# Altium footprint library SparkFun-Connectors.PCBLIB: 344 footprints (part 7 of 22)
Each footprint in its own frame and in the unit in brackets; x right, y up, seen from the top. Pads: shape width x height; smd on the part's side, far side on the other; paste and mask are expansions set on the pad; w line width, h text height; cw(c..) or ccw(c..) is an arc to the next point about the centre after c.
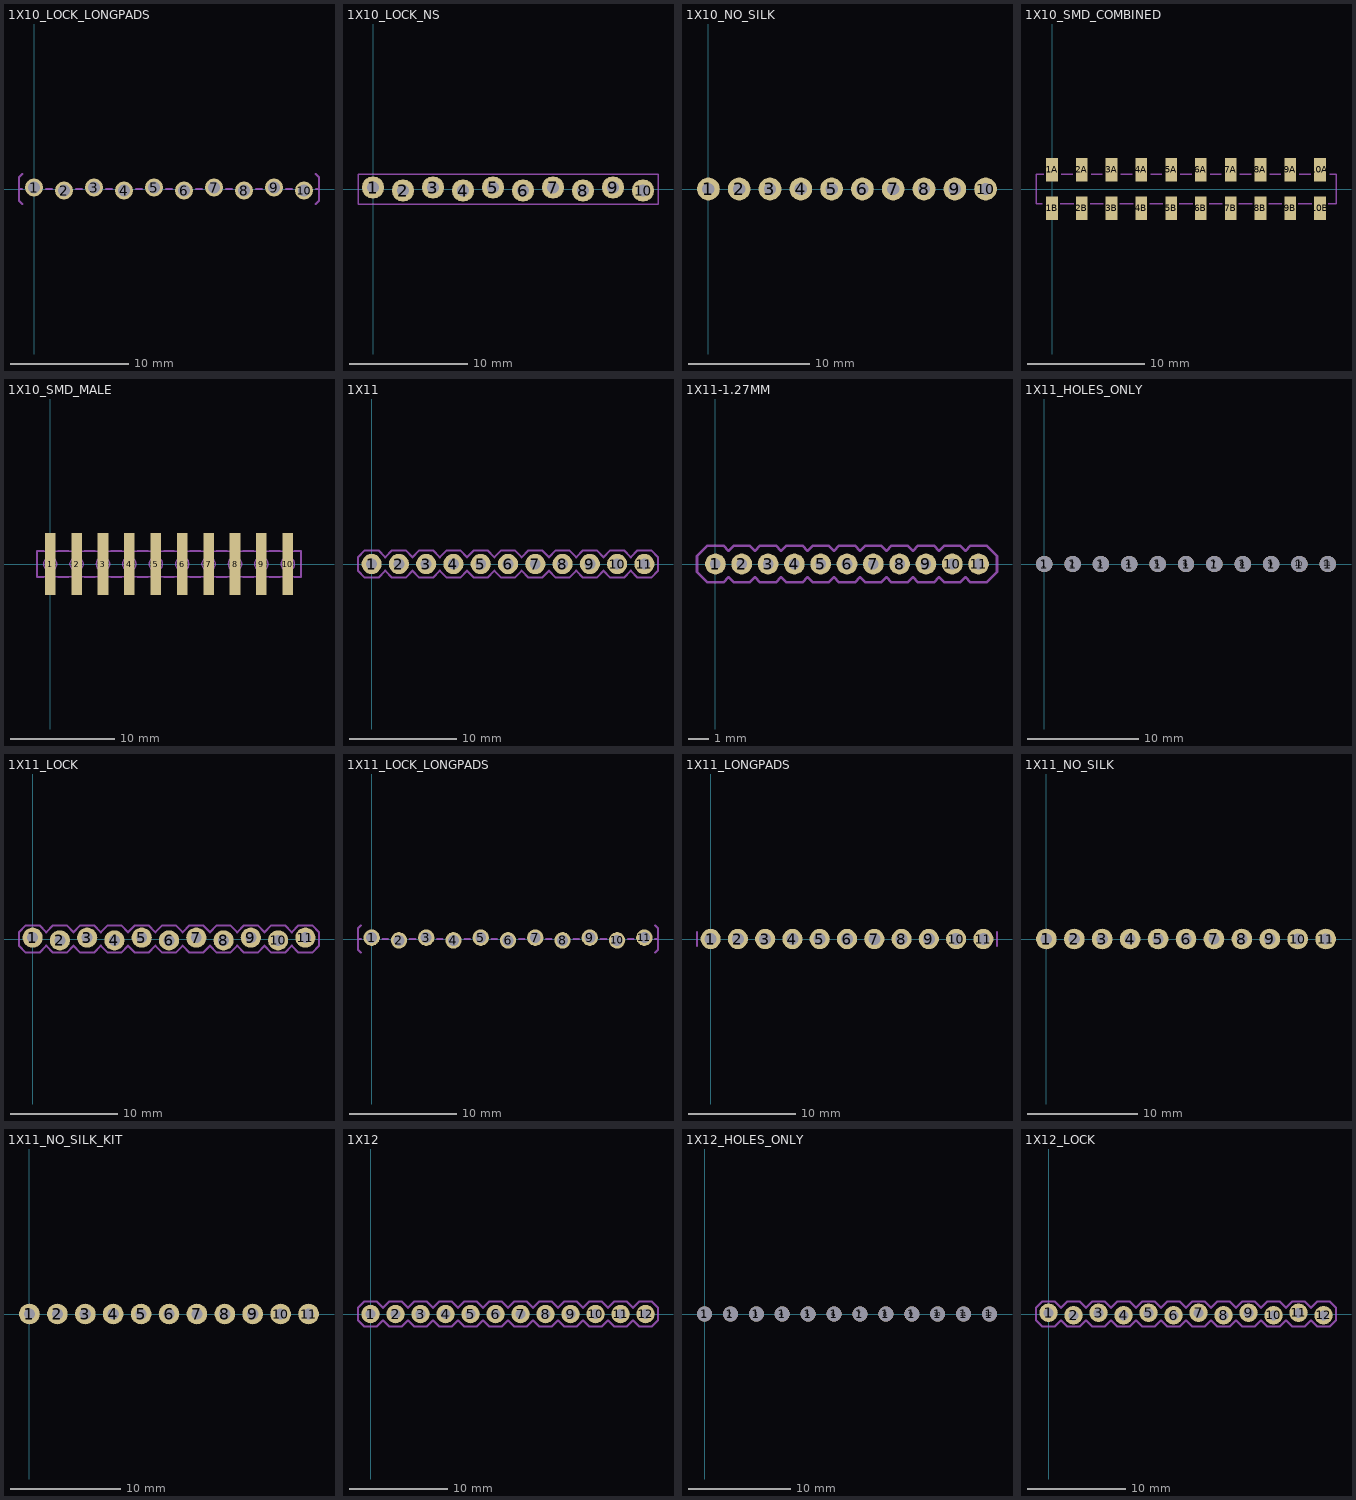
[diagram p6: the footprints below, top view; thin cyan lines are the x and y axes]

## 1X10_LOCK_LONGPADS [mil]
pads (10):
  round 60 hole 40: 1(0,5) 2(100,-5) 3(200,5) 4(300,-5) 5(400,5) 6(500,-5) 7(600,5) 8(700,-5) 9(800,5) 10(900,-5)
Mechanical 8:
  region: -11.5,-11.5 -11.5,11.5 11.5,11.5 11.5,-11.5
  region: 88.5,-11.5 88.5,11.5 111.5,11.5 111.5,-11.5
  region: 188.5,-11.5 188.5,11.5 211.5,11.5 211.5,-11.5
  region: 311.5,-11.5 288.5,-11.5 288.5,11.5 311.5,11.5
  region: 388.5,-11.5 388.5,11.5 411.5,11.5 411.5,-11.5
  region: 488.5,-11.5 488.5,11.5 511.5,11.5 511.5,-11.5
  region: 588.5,-11.5 588.5,11.5 611.5,11.5 611.5,-11.5
  region: 688.5,-11.5 688.5,11.5 711.5,11.5 711.5,-11.5
  region: 788.5,-11.5 788.5,11.5 811.5,11.5 811.5,-11.5
  region: 911.5,-11.5 888.5,-11.5 888.5,11.5 911.5,11.5
Mechanical 22:
  lines w8: -40,0 -50,0 ; -39,-50 -50,-39 -50,0 ; -39,50 -50,39 -50,0 ; 40,0 60,0 ; 140,0 160,0 ; 240,0 260,0 ; 340,0 360,0 ; 440,0 460,0 ; 540,0 560,0 ; 640,0 660,0 ; 740,0 760,0 ; 840,0 860,0 ; 939,-50 950,-39 950,0 ; 939,50 950,39 950,0 ; 940,0 950,0

## 1X10_LOCK_NS [mil]
pads (10):
  round 74 / inner round 60 / far side round 74 hole 40: 1(0,5) 2(100,-5) 3(200,5) 4(300,-5) 5(400,5) 6(500,-5) 7(600,5) 8(700,-5) 9(800,5) 10(900,-5)
Mechanical 8:
  region: 590,-10 590,10 610,10 610,-10
  region: 490,-10 490,10 510,10 510,-10
  region: 390,-10 390,10 410,10 410,-10
  region: 290,-10 290,10 310,10 310,-10
  region: 190,-10 190,10 210,10 210,-10
  region: 90,-10 90,10 110,10 110,-10
  region: -10,-10 -10,10 10,10 10,-10
  region: 690,-10 690,10 710,10 710,-10
  region: 790,-10 790,10 810,10 810,-10
  region: 890,-10 890,10 910,10 910,-10
  lines w5: -50,-50 -50,50 950,50 950,-50 -50,-50

## 1X10_NO_SILK [mil]
pads (10):
  round 74 / inner round 60 / far side round 74 hole 40: 1(0,0) 2(100,0) 3(200,0) 4(300,0) 5(400,0) 6(500,0) 7(600,0) 8(700,0) 9(800,0) 10(900,0)
Mechanical 8:
  region: 590,-10 590,10 610,10 610,-10
  region: 490,-10 490,10 510,10 510,-10
  region: 390,-10 390,10 410,10 410,-10
  region: 290,-10 290,10 310,10 310,-10
  region: 190,-10 190,10 210,10 210,-10
  region: 90,-10 90,10 110,10 110,-10
  region: -10,-10 -10,10 10,10 10,-10
  region: 690,-10 690,10 710,10 710,-10
  region: 790,-10 790,10 810,10 810,-10
  region: 890,-10 890,10 910,10 910,-10

## 1X10_SMD_COMBINED [mm]
pads (20):
  rect 1x2 smd: 1A(0,1.65) 1B(0,-1.65) 2A(2.54,1.65) 2B(2.54,-1.65) 3A(5.08,1.65) 3B(5.08,-1.65) 4A(7.62,1.65) 4B(7.62,-1.65) 5A(10.16,1.65) 5B(10.16,-1.65) 6A(12.7,1.65) 6B(12.7,-1.65) 7A(15.24,1.65) 7B(15.24,-1.65) 8A(17.78,1.65) 8B(17.78,-1.65) 9A(20.32,1.65) 9B(20.32,-1.65) 10A(22.86,1.65) 10B(22.86,-1.65)
Mechanical 22:
  lines w0.127: -0.85,-1.25 -1.37,-1.25 -1.37,1.25 -0.723,1.25 ; 0.703,-1.25 1.837,-1.25 ; 0.789,1.25 1.751,1.25 ; 3.243,-1.25 4.377,-1.25 ; 3.329,1.25 4.291,1.25 ; 5.783,-1.25 6.917,-1.25 ; 5.869,1.25 6.831,1.25 ; 8.323,-1.25 9.457,-1.25 ; 8.409,1.25 9.371,1.25 ; 10.863,-1.25 11.997,-1.25 ; 10.949,1.25 11.911,1.25 ; 13.403,-1.25 14.537,-1.25 ; 13.489,1.25 14.451,1.25 ; 15.943,-1.25 17.077,-1.25 ; 16.029,1.25 16.991,1.25 ; 18.483,-1.25 19.617,-1.25 ; 18.569,1.25 19.531,1.25 ; 21.023,-1.25 22.157,-1.25 ; 21.109,1.25 22.071,1.25 ; 23.583,-1.25 24.23,-1.25 24.23,1.25 23.71,1.25

## 1X10_SMD_MALE [mm]
pads (10):
  rect 1.02x6 smd: 1(0,0) 2(2.54,0) 3(5.08,0) 4(7.62,0) 5(10.16,0) 6(12.7,0) 7(15.24,0) 8(17.78,0) 9(20.32,0) 10(22.86,0)
Mechanical 8:
  circle w0.127: c0,0 r0.64
  circle w0.127: c2.54,0 r0.64
  circle w0.127: c5.08,0 r0.64
  circle w0.127: c7.62,0 r0.64
  circle w0.127: c10.16,0 r0.64
  circle w0.127: c12.7,0 r0.64
  circle w0.127: c15.24,0 r0.64
  circle w0.127: c17.78,0 r0.64
  circle w0.127: c20.32,0 r0.64
  circle w0.127: c22.86,0 r0.64
  region: -0.32,0 -0.32,2.75 0.32,2.75 0.32,0
  region: 4.76,0 4.76,2.75 5.4,2.75 5.4,0
  region: 9.84,0 9.84,2.75 10.48,2.75 10.48,0
  region: 2.86,0 2.86,-2.75 2.22,-2.75 2.22,0
  region: 7.94,0 7.94,-2.75 7.3,-2.75 7.3,0
  region: 13.02,0 13.02,-2.75 12.38,-2.75 12.38,0
  region: 14.92,0 14.92,2.75 15.56,2.75 15.56,0
  region: 18.1,0 18.1,-2.75 17.46,-2.75 17.46,0
  region: 23.18,0 23.18,-2.75 22.54,-2.75 22.54,0
  region: 20,0 20,2.75 20.64,2.75 20.64,0
  lines w0.127: -1.27,-1.25 -1.27,1.25 24.13,1.25 24.13,-1.25 -1.27,-1.25
Mechanical 22:
  lines w0.178: -0.635,-1.25 -1.27,-1.25 -1.27,1.25 -0.635,1.25 ; 0.762,-1.25 1.778,-1.25 ; 0.762,1.25 1.778,1.25 ; 3.302,-1.25 4.318,-1.25 ; 3.302,1.25 4.318,1.25 ; 5.842,-1.25 6.858,-1.25 ; 5.842,1.25 6.858,1.25 ; 8.382,-1.25 9.398,-1.25 ; 8.382,1.25 9.398,1.25 ; 10.922,-1.25 11.938,-1.25 ; 10.922,1.25 11.938,1.25 ; 13.462,-1.25 14.478,-1.25 ; 13.462,1.25 14.478,1.25 ; 16.002,-1.25 17.018,-1.25 ; 16.002,1.25 17.018,1.25 ; 18.542,-1.25 19.558,-1.25 ; 18.542,1.25 19.558,1.25 ; 21.082,-1.25 22.098,-1.25 ; 21.082,1.25 22.098,1.25 ; 23.495,-1.25 24.13,-1.25 24.13,1.25 23.495,1.25

## 1X11 [mil]
pads (11):
  round 74 / inner round 60 / far side round 74 hole 40: 1(0,0) 2(100,0) 3(200,0) 4(300,0) 5(400,0) 6(500,0) 7(600,0) 8(700,0) 9(800,0) 10(900,0) 11(1000,0)
Mechanical 8:
  region: 590,-10 590,10 610,10 610,-10
  region: 490,-10 490,10 510,10 510,-10
  region: 390,-10 390,10 410,10 410,-10
  region: 290,-10 290,10 310,10 310,-10
  region: 190,-10 190,10 210,10 210,-10
  region: 90,-10 90,10 110,10 110,-10
  region: -10,-10 -10,10 10,10 10,-10
  region: 690,-10 690,10 710,10 710,-10
  region: 790,-10 790,10 810,10 810,-10
  region: 890,-10 890,10 910,10 910,-10
  region: 990,-10 990,10 1010,10 1010,-10
Mechanical 22:
  lines w8: -50,-25 -50,25 -25,50 25,50 50,25 75,50 125,50 150,25 175,50 225,50 250,25 275,50 325,50 350,25 375,50 425,50 450,25 475,50 525,50 550,25 575,50 625,50 650,25 675,50 725,50 750,25 775,50 825,50 850,25 875,50 925,50 950,25 975,50 1025,50 1050,25 1050,-25 1025,-50 975,-50 950,-25 925,-50 875,-50 850,-25 825,-50 775,-50 750,-25 725,-50 675,-50 650,-25 625,-50 575,-50 550,-25 525,-50 475,-50 450,-25 425,-50 375,-50 350,-25 325,-50 275,-50 250,-25 225,-50 175,-50 150,-25 125,-50 75,-50 50,-25 25,-50 -25,-50 -50,-25

## 1X11-1.27MM [mm]
pads (11):
  round 1 / inner round 1.524 / far side round 1 hole 0.508: 1(0,0) 2(1.27,0) 3(2.54,0) 4(3.81,0) 5(5.08,0) 6(6.35,0) 7(7.62,0) 8(8.89,0) 9(10.16,0) 10(11.43,0) 11(12.7,0)
Mechanical 22:
  lines w0.127: -0.889,-0.381 -0.889,0.381 -0.381,0.889 0.381,0.889 0.635,0.635 0.889,0.889 1.651,0.889 1.905,0.635 2.159,0.889 2.921,0.889 3.175,0.635 3.429,0.889 4.191,0.889 4.445,0.635 4.699,0.889 5.461,0.889 5.715,0.635 5.969,0.889 6.731,0.889 6.985,0.635 7.239,0.889 8.001,0.889 8.255,0.635 8.509,0.889 9.271,0.889 9.525,0.635 9.779,0.889 10.541,0.889 10.795,0.635 11.049,0.889 11.811,0.889 12.065,0.635 12.319,0.889 13.081,0.889 13.589,0.381 13.589,-0.381 13.081,-0.889 12.319,-0.889 12.065,-0.635 11.811,-0.889 11.049,-0.889 10.795,-0.635 10.541,-0.889 9.779,-0.889 9.525,-0.635 9.271,-0.889 8.509,-0.889 8.255,-0.635 8.001,-0.889 7.239,-0.889 6.985,-0.635 6.731,-0.889 5.969,-0.889 5.715,-0.635 5.461,-0.889 4.699,-0.889 4.445,-0.635 4.191,-0.889 3.429,-0.889 3.175,-0.635 2.921,-0.889 2.159,-0.889 1.905,-0.635 1.651,-0.889 0.889,-0.889 0.635,-0.635 0.381,-0.889 -0.381,-0.889 -0.889,-0.381

## 1X11_HOLES_ONLY [mil]
pads (22):
  round 35 / inner round 60 / far side round 35 hole 35: 1(0,0) 2(100,0) 3(200,0) 4(300,0) 5(400,0) 6(500,0) 7(600,0) 8(700,0) 9(800,0) 10(900,0) 11(1000,0)
  round 58 hole 58 unplated: 1(0,0) 1(100,0) 1(200,0) 1(300,0) 1(400,0) 1(500,0) 1(600,0) 1(700,0) 1(800,0) 1(900,0) 1(1000,0)
Mechanical 8:
  circle w5: c0,0 r25
  circle w5: c100,0 r25
  circle w5: c200,0 r25
  circle w5: c300,0 r25
  circle w5: c400,0 r25
  circle w5: c500,0 r25
  circle w5: c600,0 r25
  circle w5: c700,0 r25
  circle w5: c800,0 r25
  circle w5: c900,0 r25
  circle w5: c1000,0 r25

## 1X11_LOCK [mil]
pads (11):
  round 74 / inner round 60 / far side round 74 hole 40: 1(0,5) 2(100,-5) 3(200,5) 4(300,-5) 5(400,5) 6(500,-5) 7(600,5) 8(700,-5) 9(800,5) 10(900,-5) 11(1000,5)
Mechanical 8:
  region: 590,-10 590,10 610,10 610,-10
  region: 490,-10 490,10 510,10 510,-10
  region: 390,-10 390,10 410,10 410,-10
  region: 290,-10 290,10 310,10 310,-10
  region: 190,-10 190,10 210,10 210,-10
  region: 90,-10 90,10 110,10 110,-10
  region: -10,-10 -10,10 10,10 10,-10
  region: 690,-10 690,10 710,10 710,-10
  region: 790,-10 790,10 810,10 810,-10
  region: 890,-10 890,10 910,10 910,-10
  region: 990,-10 990,10 1010,10 1010,-10
Mechanical 22:
  lines w8: -50,-25 -50,25 -25,50 25,50 50,25 75,50 125,50 150,25 175,50 225,50 250,25 275,50 325,50 350,25 375,50 425,50 450,25 475,50 525,50 550,25 575,50 625,50 650,25 675,50 725,50 750,25 775,50 825,50 850,25 875,50 925,50 950,25 975,50 1025,50 1050,25 1050,-25 1025,-50 975,-50 950,-25 925,-50 875,-50 850,-25 825,-50 775,-50 750,-25 725,-50 675,-50 650,-25 625,-50 575,-50 550,-25 525,-50 475,-50 450,-25 425,-50 375,-50 350,-25 325,-50 275,-50 250,-25 225,-50 175,-50 150,-25 125,-50 75,-50 50,-25 25,-50 -25,-50 -50,-25

## 1X11_LOCK_LONGPADS [mil]
pads (11):
  round 60 hole 40: 1(0,5) 2(100,-5) 3(200,5) 4(300,-5) 5(400,5) 6(500,-5) 7(600,5) 8(700,-5) 9(800,5) 10(900,-5) 11(1000,5)
Mechanical 8:
  region: -11.5,-11.5 -11.5,11.5 11.5,11.5 11.5,-11.5
  region: 88.5,-11.5 88.5,11.5 111.5,11.5 111.5,-11.5
  region: 188.5,-11.5 188.5,11.5 211.5,11.5 211.5,-11.5
  region: 311.5,-11.5 288.5,-11.5 288.5,11.5 311.5,11.5
  region: 388.5,-11.5 388.5,11.5 411.5,11.5 411.5,-11.5
  region: 488.5,-11.5 488.5,11.5 511.5,11.5 511.5,-11.5
  region: 588.5,-11.5 588.5,11.5 611.5,11.5 611.5,-11.5
  region: 688.5,-11.5 688.5,11.5 711.5,11.5 711.5,-11.5
  region: 788.5,-11.5 788.5,11.5 811.5,11.5 811.5,-11.5
  region: 911.5,-11.5 888.5,-11.5 888.5,11.5 911.5,11.5
  region: 988.5,-11.5 988.5,11.5 1011.5,11.5 1011.5,-11.5
Mechanical 22:
  lines w8: -40,0 -50,0 ; -39,-50 -50,-39 -50,0 ; -39,50 -50,39 -50,0 ; 40,0 60,0 ; 140,0 160,0 ; 240,0 260,0 ; 340,0 360,0 ; 440,0 460,0 ; 540,0 560,0 ; 640,0 660,0 ; 740,0 760,0 ; 840,0 860,0 ; 940,0 960,0 ; 1039,-50 1050,-39 1050,0 ; 1039,50 1050,39 1050,0 ; 1040,0 1050,0

## 1X11_LONGPADS [mil]
pads (11):
  round 74 / inner round 60 / far side round 74 hole 44: 1(0,0) 2(100,0) 3(200,0) 4(300,0) 5(400,0) 6(500,0) 7(600,0) 8(700,0) 9(800,0) 10(900,0) 11(1000,0)
Mechanical 8:
  region: 590,-10 590,10 610,10 610,-10
  region: 490,-10 490,10 510,10 510,-10
  region: 390,-10 390,10 410,10 410,-10
  region: 290,-10 290,10 310,10 310,-10
  region: 190,-10 190,10 210,10 210,-10
  region: 90,-10 90,10 110,10 110,-10
  region: -10,-10 -10,10 10,10 10,-10
  region: 690,-10 690,10 710,10 710,-10
  region: 790,-10 790,10 810,10 810,-10
  region: 890,-10 890,10 910,10 910,-10
  region: 990,-10 990,10 1010,10 1010,-10
Mechanical 22:
  lines w8: -50,-25 -50,25 ; 1050,-25 1050,25

## 1X11_NO_SILK [mil]
pads (11):
  round 74 / inner round 60 / far side round 74 hole 40: 1(0,0) 2(100,0) 3(200,0) 4(300,0) 5(400,0) 6(500,0) 7(600,0) 8(700,0) 9(800,0) 10(900,0) 11(1000,0)
Mechanical 8:
  region: 590,-10 590,10 610,10 610,-10
  region: 490,-10 490,10 510,10 510,-10
  region: 390,-10 390,10 410,10 410,-10
  region: 290,-10 290,10 310,10 310,-10
  region: 190,-10 190,10 210,10 210,-10
  region: 90,-10 90,10 110,10 110,-10
  region: -10,-10 -10,10 10,10 10,-10
  region: 690,-10 690,10 710,10 710,-10
  region: 790,-10 790,10 810,10 810,-10
  region: 890,-10 890,10 910,10 910,-10
  region: 990,-10 990,10 1010,10 1010,-10

## 1X11_NO_SILK_KIT [mil]
pads (11):
  round 74 / inner round 60 / far side round 74 hole 40: 1(0,0) 2(100,0) 3(200,0) 4(300,0) 5(400,0) 6(500,0) 7(600,0) 8(700,0) 9(800,0) 10(900,0) 11(1000,0)
Top Solder:
  circle w0: c0,0 r20
  circle w0: c100,0 r20
  circle w0: c200,0 r20
  circle w0: c300,0 r20
  circle w0: c400,0 r20
  circle w0: c500,0 r20
  circle w0: c600,0 r20
  circle w0: c700,0 r20
  circle w0: c800,0 r20
  circle w0: c900,0 r20
  circle w0: c1000,0 r20
Bottom Solder:
  circle w0: c0,0 r37.5
  circle w0: c100,0 r37.5
  circle w0: c200,0 r37.5
  circle w0: c300,0 r37.5
  circle w0: c400,0 r37.5
  circle w0: c500,0 r37.5
  circle w0: c600,0 r37.5
  circle w0: c700,0 r37.5
  circle w0: c800,0 r37.5
  circle w0: c900,0 r37.5
  circle w0: c1000,0 r37.5

## 1X12 [mil]
pads (12):
  round 74 / inner round 60 / far side round 74 hole 40: 1(0,0) 2(100,0) 3(200,0) 4(300,0) 5(400,0) 6(500,0) 7(600,0) 8(700,0) 9(800,0) 10(900,0) 11(1000,0) 12(1100,0)
Mechanical 8:
  region: 590,-10 590,10 610,10 610,-10
  region: 490,-10 490,10 510,10 510,-10
  region: 390,-10 390,10 410,10 410,-10
  region: 290,-10 290,10 310,10 310,-10
  region: 190,-10 190,10 210,10 210,-10
  region: 90,-10 90,10 110,10 110,-10
  region: -10,-10 -10,10 10,10 10,-10
  region: 690,-10 690,10 710,10 710,-10
  region: 790,-10 790,10 810,10 810,-10
  region: 890,-10 890,10 910,10 910,-10
  region: 990,-10 990,10 1010,10 1010,-10
  region: 1090,-10 1090,10 1110,10 1110,-10
Mechanical 22:
  lines w8: -50,-25 -50,25 -25,50 25,50 50,25 75,50 125,50 150,25 175,50 225,50 250,25 275,50 325,50 350,25 375,50 425,50 450,25 475,50 525,50 550,25 575,50 625,50 650,25 675,50 725,50 750,25 775,50 825,50 850,25 875,50 925,50 950,25 975,50 1025,50 1050,25 1075,50 1125,50 1150,25 1150,-25 1125,-50 1075,-50 1050,-25 1025,-50 975,-50 950,-25 925,-50 875,-50 850,-25 825,-50 775,-50 750,-25 725,-50 675,-50 650,-25 625,-50 575,-50 550,-25 525,-50 475,-50 450,-25 425,-50 375,-50 350,-25 325,-50 275,-50 250,-25 225,-50 175,-50 150,-25 125,-50 75,-50 50,-25 25,-50 -25,-50 -50,-25

## 1X12_HOLES_ONLY [mil]
pads (24):
  round 35 / inner round 60 / far side round 35 hole 35: 1(0,0) 2(100,0) 3(200,0) 4(300,0) 5(400,0) 6(500,0) 7(600,0) 8(700,0) 9(800,0) 10(900,0) 11(1000,0) 12(1100,0)
  round 58 hole 58 unplated: 1(0,0) 1(100,0) 1(200,0) 1(300,0) 1(400,0) 1(500,0) 1(600,0) 1(700,0) 1(800,0) 1(900,0) 1(1000,0) 1(1100,0)
Mechanical 8:
  circle w5: c0,0 r25
  circle w5: c100,0 r25
  circle w5: c200,0 r25
  circle w5: c300,0 r25
  circle w5: c400,0 r25
  circle w5: c500,0 r25
  circle w5: c600,0 r25
  circle w5: c700,0 r25
  circle w5: c800,0 r25
  circle w5: c900,0 r25
  circle w5: c1000,0 r25
  circle w5: c1100,0 r25

## 1X12_LOCK [mil]
pads (12):
  round 74 / inner round 60 / far side round 74 hole 40: 1(0,5) 2(100,-5) 3(200,5) 4(300,-5) 5(400,5) 6(500,-5) 7(600,5) 8(700,-5) 9(800,5) 10(900,-5) 11(1000,5) 12(1100,-5)
Mechanical 8:
  region: 590,-10 590,10 610,10 610,-10
  region: 510,-10 490,-10 490,10 510,10
  region: 390,-10 390,10 410,10 410,-10
  region: 290,-10 290,10 310,10 310,-10
  region: 190,-10 190,10 210,10 210,-10
  region: 90,-10 90,10 110,10 110,-10
  region: -10,-10 -10,10 10,10 10,-10
  region: 690,-10 690,10 710,10 710,-10
  region: 790,-10 790,10 810,10 810,-10
  region: 890,-10 890,10 910,10 910,-10
  region: 990,-10 990,10 1010,10 1010,-10
  region: 1090,-10 1090,10 1110,10 1110,-10
Mechanical 22:
  lines w8: -50,-25 -50,25 -25,50 25,50 50,25 75,50 125,50 150,25 175,50 225,50 250,25 275,50 325,50 350,25 375,50 425,50 450,25 475,50 525,50 550,25 575,50 625,50 650,25 675,50 725,50 750,25 775,50 825,50 850,25 875,50 925,50 950,25 975,50 1025,50 1050,25 1075,50 1125,50 1150,25 1150,-25 1125,-50 1075,-50 1050,-25 1025,-50 975,-50 950,-25 925,-50 875,-50 850,-25 825,-50 775,-50 750,-25 725,-50 675,-50 650,-25 625,-50 575,-50 550,-25 525,-50 475,-50 450,-25 425,-50 375,-50 350,-25 325,-50 275,-50 250,-25 225,-50 175,-50 150,-25 125,-50 75,-50 50,-25 25,-50 -25,-50 -50,-25